# EAGLE library part XS1-L01A-TQ48 (library Eagle_XMOS_Lib_COMPLETE)
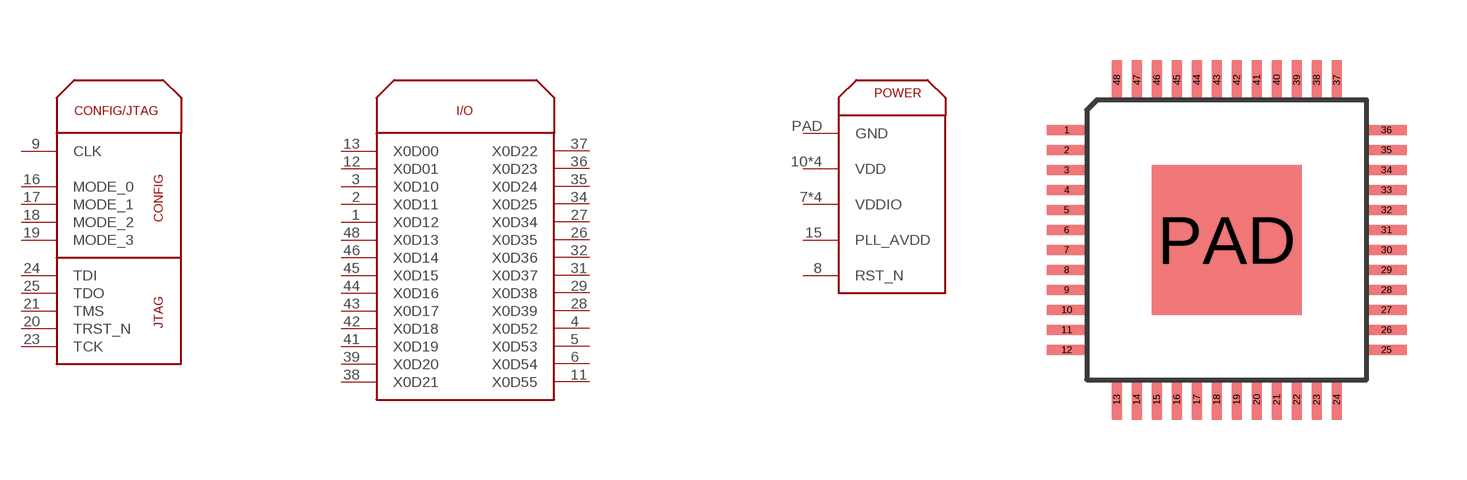
[diagram p1: symbol with the pads of TQFP48; footprint TQFP48]

Designator prefix -; gates G$1=XS1-L01A-TQ48_CONFIG/JTAG G$2=XS1-L01A-TQ48_I/O G$3=XS1-L01A-TQ48_POWER

## XS1-L01A-TQ48  [TQFP48]
1  G$2:X0D12
2  G$2:X0D11
3  G$2:X0D10
4  G$2:X0D52
5  G$2:X0D53
6  G$2:X0D54
7  G$3:VDDIO
8  G$3:RST_N
9  G$1:CLK
10  G$3:VDD
11  G$2:X0D55
12  G$2:X0D01
13  G$2:X0D00
14  G$3:VDDIO
15  G$3:PLL_AVDD
16  G$1:MODE_0
17  G$1:MODE_1
18  G$1:MODE_2
19  G$1:MODE_3
20  G$1:TRST_N
21  G$1:TMS
22  G$3:VDD
23  G$1:TCK
24  G$1:TDI
25  G$1:TDO
26  G$2:X0D35
27  G$2:X0D34
28  G$2:X0D39
29  G$2:X0D38
30  G$3:VDDIO
31  G$2:X0D37
32  G$2:X0D36
33  G$3:VDD
34  G$2:X0D25
35  G$2:X0D24
36  G$2:X0D23
37  G$2:X0D22
38  G$2:X0D21
39  G$2:X0D20
40  G$3:VDDIO
41  G$2:X0D19
42  G$2:X0D18
43  G$2:X0D17
44  G$2:X0D16
45  G$2:X0D15
46  G$2:X0D14
47  G$3:VDD
48  G$2:X0D13
PAD  G$3:GND

## Footprint TQFP48 (pad centres in mm)
smd 1 x 0.25: 1 7.5,1; 2 7.5,0.5; 3 7.5,0; 4 7.5,-0.5; 5 7.5,-1; 6 7.5,-1.5; 7 7.5,-2; 8 7.5,-2.5; 9 7.5,-3; 10 7.5,-3.5; 11 7.5,-4; 12 7.5,-4.5; 25 15.5,-4.5; 26 15.5,-4; 27 15.5,-3.5; 28 15.5,-3; 29 15.5,-2.5; 30 15.5,-2; 31 15.5,-1.5; 32 15.5,-1; 33 15.5,-0.5; 34 15.5,0; 35 15.5,0.5; 36 15.5,1
smd 0.25 x 1: 13 8.75,-5.75; 14 9.25,-5.75; 15 9.75,-5.75; 16 10.25,-5.75; 17 10.75,-5.75; 18 11.25,-5.75; 19 11.75,-5.75; 20 12.25,-5.75; 21 12.75,-5.75; 22 13.25,-5.75; 23 13.75,-5.75; 24 14.25,-5.75; 37 14.25,2.25; 38 13.75,2.25; 39 13.25,2.25; 40 12.75,2.25; 41 12.25,2.25; 42 11.75,2.25; 43 11.25,2.25; 44 10.75,2.25; 45 10.25,2.25; 46 9.75,2.25; 47 9.25,2.25; 48 8.75,2.25
smd 3.75 x 3.75: PAD 11.5,-1.75